# Altium footprint library Reid Orthotic v2.PcbLib: 3 footprints
Each footprint in its own frame and in the unit in brackets; x right, y up, seen from the top. Pads: shape width x height; smd on the part's side, far side on the other; paste and mask are expansions set on the pad; w line width, h text height; cw(c..) or ccw(c..) is an arc to the next point about the centre after c.
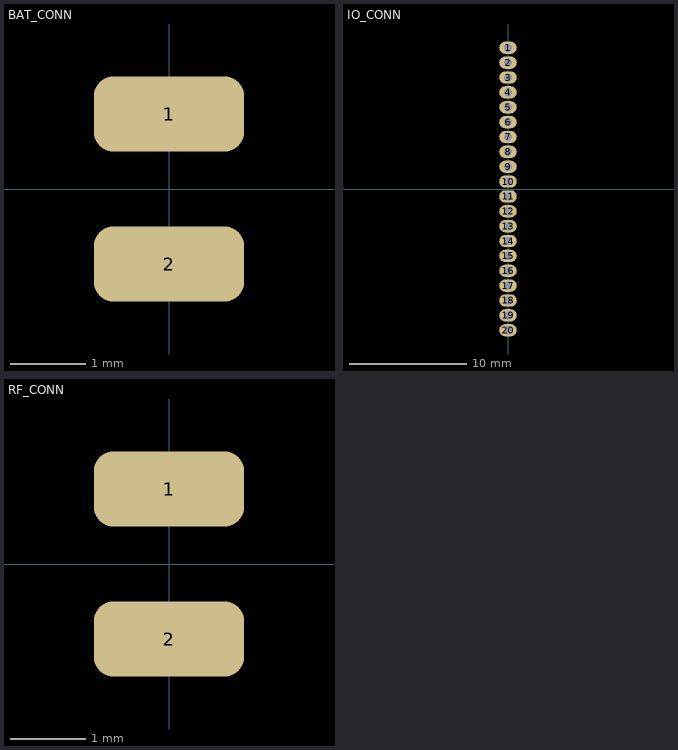
[diagram p0: the footprints below, top view; thin cyan lines are the x and y axes]

## BAT_CONN [mm]
pads (2):
  rrect50% 2x1 smd: 1(0,1) 2(0,-1)

## IO_CONN [mm]
pads (20):
  oval 1.5x1.05 hole 0.7: 1(0,12.065) 2(0,10.795) 3(0,9.525) 4(0,8.255) 5(0,6.985) 6(0,5.715) 7(0,4.445) 8(0,3.175) 9(0,1.905) 10(0,0.635) 11(0,-0.635) 12(0,-1.905) 13(0,-3.175) 14(0,-4.445) 15(0,-5.715) 16(0,-6.985) 17(0,-8.255) 18(0,-9.525) 19(0,-10.795) 20(0,-12.065)

## RF_CONN [mm]
pads (2):
  rrect50% 2x1 smd: 1(0,1) 2(0,-1)